# Altium footprint library BH3.5-2P.PcbLib: 1 footprints
Each footprint in its own frame and in the unit in brackets; x right, y up, seen from the top. Pads: shape width x height; smd on the part's side, far side on the other; paste and mask are expansions set on the pad; w line width, h text height; cw(c..) or ccw(c..) is an arc to the next point about the centre after c.
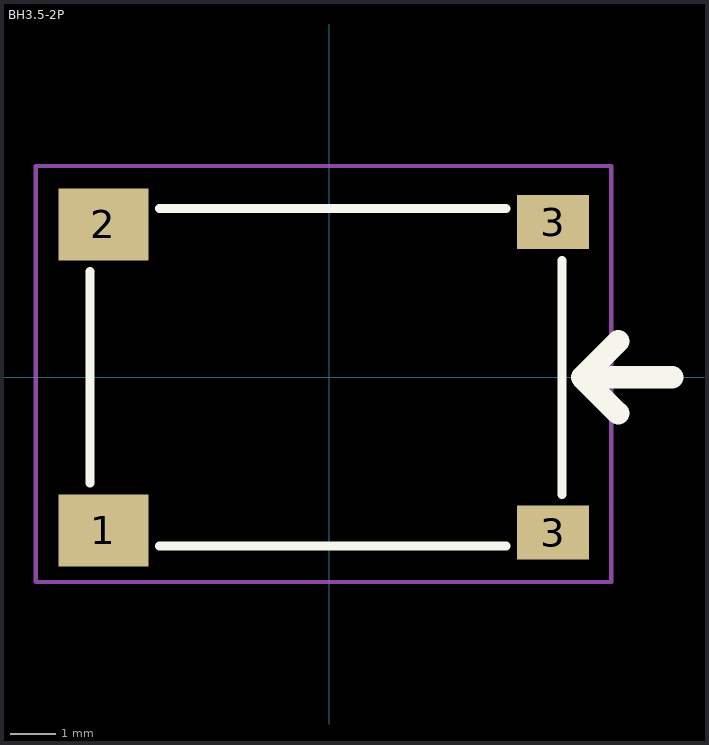
[diagram p0: the footprint, top view; thin cyan lines are the x and y axes]

## BH3.5-2P [mm]
pads (4):
  rect 2x1.6 smd: 1(-5.025,-3.4) 2(-5.025,3.4)
  rect 1.6x1.2 smd: 3(4.975,-3.45) 3(4.975,3.45)
Top Overlay:
  lines w0.2: -5.325,-2.35 -5.325,2.35 ; -3.775,-3.75 3.925,-3.75 ; -3.775,3.75 3.925,3.75 ; 5.175,-2.6 5.175,2.6
  lines w0.5: 6.425,0.8 5.625,0 ; 7.625,0 5.625,0 ; 5.625,0 6.425,-0.8 ; 6.425,-0.8 6.425,-0.8
Top Courtyard:
  lines w0.1: -6.525,-4.55 5.775,-4.55 6.275,-4.55 6.275,4.7 -6.525,4.7 -6.525,-4.55
3D body: height 3.65, standoff 0, extent -5.325,-3.75 5.175,3.75